# Altium integrated library TE Modular Jacks and Plugs (RJ45, RJ11, RJ25).IntLib: 2 symbols
Pins are listed as number, name and electrical type; pins without a type are passive.

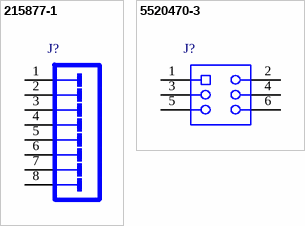
[diagram p0: symbols 215877-1 to 5520470-3]

## 215877-1
designator J?
Female Header, Pitch 2.54 mm, 2 x 4 Position, Height 11.5 mm, Tail Length 3 mm, -40 to 105 degC, RoHS, Tape and Reel; Dynamic Catalog: Modular Jacks; Other Names: A105009CT; Number of Ports: 1; Connector Type: Jack; LED Color: Does Not Contain LED; Ratings: Cat3; Number of Positions/Contacts: 8p8c (RJ45, Ethernet); 3D Model: 215877-1.pdf; Tab Direction: Down; Shielding: Unshielded; DatasheetVersion: Rev. AE; PackageReference: THD; Supplier 1: Digi-Key; Supplier Part Number 1: A105009TR-ND; Supplier 2: Digi-Key; Supplier Part Number 2: A105009CT-ND; Features: Board Lock; Packaging: Cut Tape (CT); Termination: Solder; Family: Modular Connectors - Jacks; Contact Finish: Gold; Housing Material: Polybutylene Terephthalate (PBT); RoHS Information: 215877-1 Statement of Compliance; Mounting Type: Through Hole; Contact Material: Phosphor Bronze; Orientation: 90° Angle (Right); Standard Package: 1; Number of Rows: 1; Category: Connectors, Interconnects; ComponentLink1Description: Manufacturer URL; ComponentLink1URL: http://www.te.com; ComponentLink2Description: Datasheet; ComponentLink2URL: https://datasheet.ciiva.com/16310/215877-1-16310656.pdf
footprint TECO-215877-1_V (TH, 8-Leads, Body 18.1x15.2mm)
pins: 1, 2, 3, 4, 5, 6, 7, 8

## 5520470-3
designator J?
Modular Jack, 6 Position, Right Angle, RoHS, Tray; Catalog Drawings: Jack Side Entry Side / Jack Side Entry Front / Jack Side Entry Top; Dynamic Catalog: Modular Jacks; Other Names: A31417; Number of Ports: 1; LED Color: Does Not Contain LED; Ratings: Cat3; Number of Positions/Contacts: 6p6c (RJ11, RJ12, RJ14, RJ25); 3D Model: 5520470-3.pdf; Associated Product: 106307-1-ND / - CONN ACCY CAP BLACK; Tab Direction: Down; Shielding: Unshielded; DatasheetVersion: Rev. B1; PackageReference: THD; PackageDescription: Female Header, Pitch 1.27 mm, 2 x 3 Position, Height 16.13 mm, Tail Length 4.32 mm; Supplier 1: Digi-Key; Supplier Part Number 1: A31417-ND; Features: Board Lock; Connector Type: Jack; Contact Finish Thickness: 50µin (1.27µm); Packaging: Tray; Termination: Solder; Family: Modular Connectors - Jacks; Contact Finish: Gold; Housing Material: Polybutylene Terephthalate (PBT), Polyester; RoHS Information: 5520470-3 Statement of Compliance; Mounting Type: Through Hole; Contact Material: Phosphor Bronze; Orientation: 90° Angle (Right); Standard Package: 176; Number of Rows: 1; Category: Connectors, Interconnects; ComponentLink1Description: Manufacturer URL; ComponentLink1URL: http://www.te.com; ComponentLink2Description: Datasheet; ComponentLink2URL: http://www.te.com/commerce/DocumentDelivery/DDEController?Action=srchrtrv&DocNm=5520470&DocType=Customer+Drawing&DocLang=English
footprint TECO-5520470-3_V (THD, 6-Leads, Body 20.96x13.59mm, Pitch 1.27mm)
pins: 1, 2, 3, 4, 5, 6